# EAGLE library part CONFIGURATION_BRD_CAST (library CYCFI_Module_castellated)
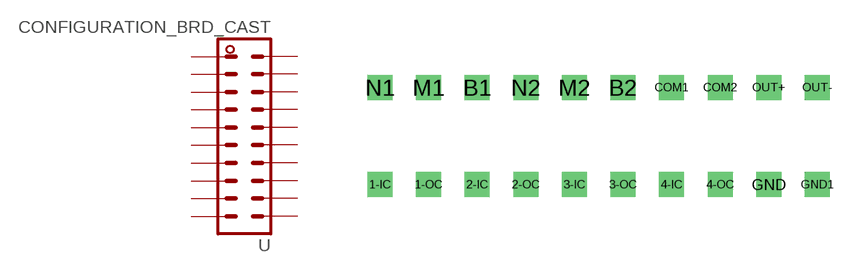
[diagram p3: symbol with the pads of CONFIGURATION_BRD_CAST; footprint CONFIGURATION_BRD_CAST]

Designator prefix -

## CONFIGURATION_BRD_CAST  [CONFIGURATION_BRD_CAST]
1-IC  1-IC  pas
1-OC  1-OC  pas
2-IC  2-IC  pas
2-OC  2-OC  pas
3-IC  3-IC  pas
3-OC  3-OC  pas
4-IC  4-IC  pas
4-OC  4-OC  pas
B1  B1  pas
B2  B2  pas
COM1  COM1  pas
COM2  COM2  pas
GND  GND  pas
GND1  GND1  pas
M1  M1  pas
M2  M2  pas
N1  N1  pas
N2  N2  pas
OUT+  OUT+  pas
OUT-  OUT-  pas

## Footprint CONFIGURATION_BRD_CAST (pad centres in mm)
drill 0.8 square: 1-IC -8.89,-2.54; 1-OC -6.35,-2.54; 2-IC -3.81,-2.54; 2-OC -1.27,-2.54; 3-IC 1.27,-2.54; 3-OC 3.81,-2.54; 4-IC 6.35,-2.54; 4-OC 8.89,-2.54; B1 -3.81,2.54; B2 3.81,2.54; COM1 6.35,2.54; COM2 8.89,2.54; GND 11.43,-2.54; GND1 13.97,-2.54; M1 -6.35,2.54; M2 1.27,2.54; N1 -8.89,2.54; N2 -1.27,2.54; OUT+ 11.43,2.54; OUT- 13.97,2.54